# Altium footprint library PcbLib_H2.PcbLib: 33 footprints (part 2 of 3)
Each footprint in its own frame and in the unit in brackets; x right, y up, seen from the top. Pads: shape width x height; smd on the part's side, far side on the other; paste and mask are expansions set on the pad; w line width, h text height; cw(c..) or ccw(c..) is an arc to the next point about the centre after c.
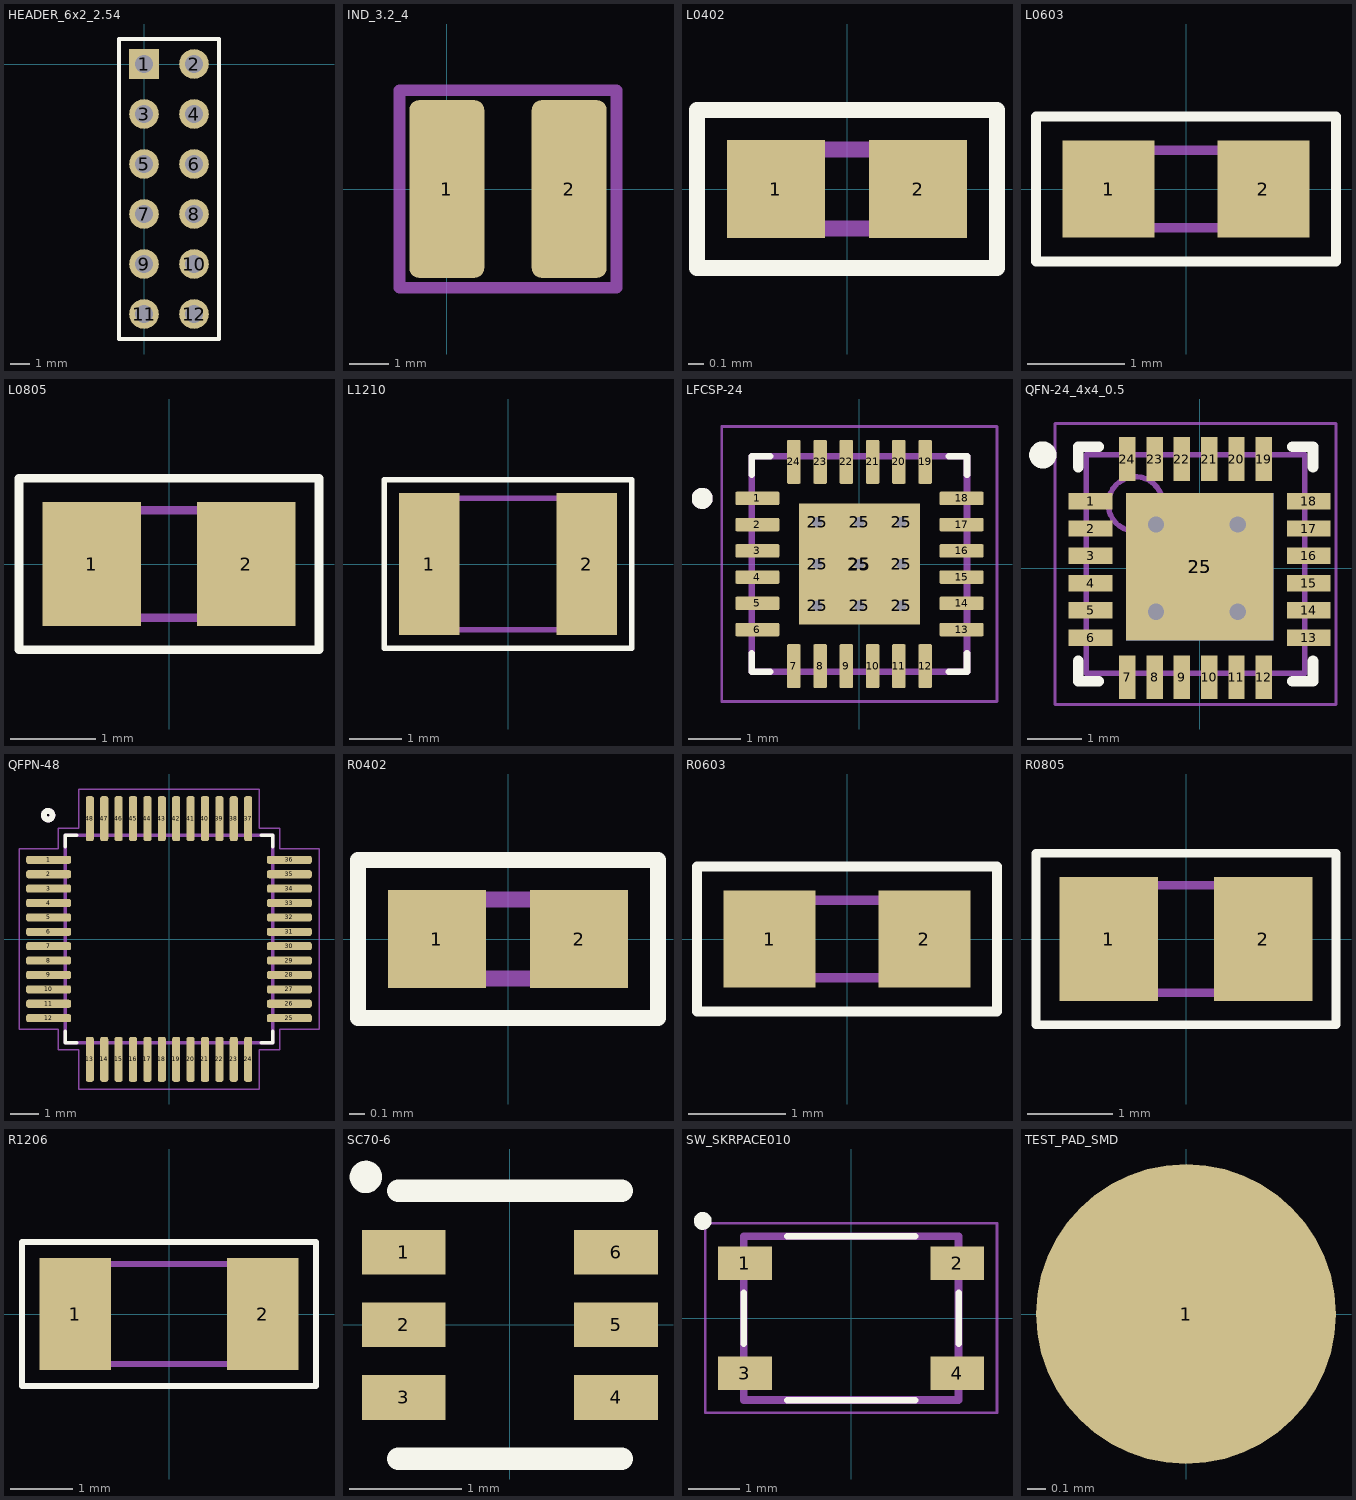
[diagram p1: the footprints below, top view; thin cyan lines are the x and y axes]

## HEADER_6x2_2.54 [mm] "Connector; Header; 2 Position"
pads (12):
  rect 1.5x1.5 hole 0.9: 1(0,0)
  round 1.5 hole 0.9: 2(2.54,0) 3(0,-2.54) 4(2.54,-2.54) 5(0,-5.08) 6(2.54,-5.08) 7(0,-7.62) 8(2.54,-7.62) 9(0,-10.16) 10(2.54,-10.16) 11(0,-12.7) 12(2.54,-12.7)
Top Overlay:
  lines w0.2: -1.27,-13.97 3.81,-13.97 3.81,1.27 -1.27,1.27 -1.27,-13.97
3D body "Pin Header 2x6 TH Pitch 2.54mm.stp": height 9.5, standoff -3.2, extent -1.27,-13.97 3.81,1.27

## IND_3.2_4 [mm]
pads (2):
  rrect25% 1.9x4.5 smd: 1(0,0) 2(3.1,0)
Mechanical 15:
  lines w0.3: -1.2,-2.5 4.3,-2.5 4.3,2.5 -1.2,2.5 -1.2,-2.5
3D body "CD43.stp": height 3.3, standoff 0, extent -0.724,-2.05 3.824,2.05

## L0402 [mm] "Chip Inductor; Body 1 x 0.5 mm (LxW typ)"
height 0.4
pads (2):
  rect 0.62x0.62 smd mask+0.05: 1(-0.45,0) 2(0.45,0)
Top Overlay:
  lines w0.1: -0.95,-0.5 -0.95,0.5 0.95,0.5 0.95,-0.5 -0.95,-0.5
Mechanical 15:
  lines w0.1: -0.5,-0.25 -0.5,0.25 0.5,0.25 0.5,-0.25 -0.5,-0.25
3D body "User Library-Chip Inductor_0402.step": height 0.5, standoff 0, extent -0.5,-0.3 0.5,0.3

## L0603 [mm] "Chip Inductor; Body 1.6 x 0.8 mm (LxW typ)"
height 0.87
pads (2):
  rect 0.95x1 smd mask+0.05: 1(-0.8,0) 2(0.8,0)
Top Overlay:
  lines w0.1: -1.55,-0.75 1.55,-0.75 1.55,0.75 -1.55,0.75 -1.55,-0.75
Mechanical 15:
  lines w0.1: -0.8,-0.4 -0.8,0.4 0.8,0.4 0.8,-0.4 -0.8,-0.4
3D body "User Library-Chip Inductor_0603.step": height 0.8, standoff 0, extent -0.8,-0.475 0.8,0.475

## L0805 [mm] "Chip Inductor; Body 2.0 x 1.2 mm (LxW typ)"
height 1.3
pads (2):
  rect 1.15x1.45 smd mask+0.05: 1(-0.9,0) 2(0.9,0)
Top Overlay:
  lines w0.1: -1.75,-1 1.75,-1 1.75,1 -1.75,1 -1.75,-1
Mechanical 15:
  lines w0.1: -1,-0.625 -1,0.625 1,0.625 1,-0.625 -1,-0.625
3D body "User Library-Chip Inductor_0805.step": height 1.2, standoff 0, extent -1,-0.65 1,0.65

## L1210 [mm] "Chip Inductor, Body 3.2x2.5mm, IPC Medium Density"
height 1.5
pads (2):
  rect 1.15x2.7 smd: 1(-1.5,0) 2(1.5,0)
Top Overlay:
  lines w0.1: -2.35,-1.6 -2.35,1.6 2.35,1.6 2.35,-1.6 -2.35,-1.6
Mechanical 15:
  lines w0.1: -1.6,-1.25 1.6,-1.25 1.6,1.25 -1.6,1.25 -1.6,-1.25
3D body "User Library-LQH32CN.step": height 2, standoff 0, extent -1.601,-1.355 1.601,1.355

## LFCSP-24 [mm]
pads (34):
  rrect25% 0.84x0.26 smd: 1(-1.945,1.25) 2(-1.945,0.75) 3(-1.945,0.25) 4(-1.945,-0.25) 5(-1.945,-0.75) 6(-1.945,-1.25) 13(1.945,-1.25) 14(1.945,-0.75) 15(1.945,-0.25) 16(1.945,0.25) 17(1.945,0.75) 18(1.945,1.25)
  rrect25% 0.26x0.84 smd: 7(-1.25,-1.945) 8(-0.75,-1.945) 9(-0.25,-1.945) 10(0.25,-1.945) 11(0.75,-1.945) 12(1.25,-1.945) 19(1.25,1.945) 20(0.75,1.945) 21(0.25,1.945) 22(-0.25,1.945) 23(-0.75,1.945) 24(-1.25,1.945)
  round 0.5 hole 0.2 mask+0: 25(-0.8,-0.8) 25(-0.8,0) 25(-0.8,0.8) 25(0,0) 25(0,0.8) 25(0,-0.8) 25(0.8,0) 25(0.8,0.8) 25(0.8,-0.8)
  rect 2.3x2.3 smd paste-2: 25(0,0)
Top Overlay:
  circle w0.2: c-2.995,1.25 r0.1
  lines w0.127: -2.05,-1.7 -2.05,-2.05 -1.7,-2.05 ; -2.05,1.7 -2.05,2.05 -1.7,2.05 ; 1.7,-2.05 2.05,-2.05 2.05,-1.7 ; 1.7,2.05 2.05,2.05 2.05,1.7
Mechanical 13:
  circle w0.2: c-2.995,1.25 r0.1
  lines w0.127: -2.05,-2.05 2.05,-2.05 2.05,2.05 -2.05,2.05 -2.05,-2.05
Mechanical 15:
  lines w0.05: -2.62,-2.62 2.62,-2.62 2.62,2.62 -2.62,2.62 -2.62,-2.62
3D body "ADA4938-2ACPZ-R2.STEP": height 0.8, standoff 0, extent -2,-2 2,2

## QFN-24_4x4_0.5 [mm] "QFN, 24-Leads, Body 4,00x4,00mm, Pitch 0,50mm, Thermal Pad 2,45x2,45mm, IPC Medium Density"
height 0.8
pads (26):
  rect 0.8x0.3 smd: 1(-2,1.225) 2(-2,0.725) 3(-2,0.225) 4(-2,-0.275) 5(-2,-0.775) 6(-2,-1.275) 13(2,-1.275) 14(2,-0.775) 15(2,-0.275) 16(2,0.225) 17(2,0.725) 18(2,1.225)
  rect 0.3x0.8 smd: 7(-1.325,-2) 8(-0.825,-2) 9(-0.325,-2) 10(0.175,-2) 11(0.675,-2) 12(1.175,-2) 19(1.175,2) 20(0.675,2) 21(0.175,2) 22(-0.325,2) 23(-0.825,2) 24(-1.325,2)
  rect 2.7x2.7 smd: 25(0,0.025)
  rect 2.7x2.7 smd far side: 25(0,0.025)
via -0.8,0.8 diameter 0.6 hole 0.3
via 0.7,0.8 diameter 0.6 hole 0.3
via -0.8,-0.8 diameter 0.6 hole 0.3
via 0.7,-0.8 diameter 0.6 hole 0.3
Top Overlay:
  circle w0.25: c-2.875,2.075 r0.125
  lines w0.2: -2.225,-1.7 -2.225,-2.075 -1.85,-2.075 ; -2.225,1.85 -2.225,2.225 -1.85,2.225 ; 1.7,-2.075 2.075,-2.075 2.075,-1.7 ; 1.7,2.225 2.075,2.225 2.075,1.85
Mechanical 13:
  circle w0.1: c-1.175,1.175 r0.5
  lines w0.1: -2.075,-1.925 1.925,-1.925 1.925,2.075 -2.075,2.075 -2.075,-1.925
Mechanical 15:
  lines w0.05: -2.65,-2.5 2.5,-2.5 2.5,2.65 -2.65,2.65 -2.65,-2.5
  lines w0.1: -0.575,0.075 0.425,0.075 ; -0.075,-0.425 -0.075,0.575
3D body "QFN-24_4x4_0.5.step": height 0.8, standoff 0, extent -2.141,-2.082 1.959,2.018

## QFPN-48 [mm]
pads (48):
  rrect50% 1.56x0.28 smd: 1(-4.18,2.75) 2(-4.18,2.25) 3(-4.18,1.75) 4(-4.18,1.25) 5(-4.18,0.75) 6(-4.18,0.25) 7(-4.18,-0.25) 8(-4.18,-0.75) 9(-4.18,-1.25) 10(-4.18,-1.75) 11(-4.18,-2.25) 12(-4.18,-2.75) 25(4.18,-2.75) 26(4.18,-2.25) 27(4.18,-1.75) 28(4.18,-1.25) 29(4.18,-0.75) 30(4.18,-0.25) 31(4.18,0.25) 32(4.18,0.75) 33(4.18,1.25) 34(4.18,1.75) 35(4.18,2.25) 36(4.18,2.75)
  rrect50% 0.28x1.56 smd: 13(-2.75,-4.18) 14(-2.25,-4.18) 15(-1.75,-4.18) 16(-1.25,-4.18) 17(-0.75,-4.18) 18(-0.25,-4.18) 19(0.25,-4.18) 20(0.75,-4.18) 21(1.25,-4.18) 22(1.75,-4.18) 23(2.25,-4.18) 24(2.75,-4.18) 37(2.75,4.18) 38(2.25,4.18) 39(1.75,4.18) 40(1.25,4.18) 41(0.75,4.18) 42(0.25,4.18) 43(-0.25,4.18) 44(-0.75,4.18) 45(-1.25,4.18) 46(-1.75,4.18) 47(-2.25,4.18) 48(-2.75,4.18)
Top Overlay:
  circle w0.2: c-4.2,4.3 r0.15
  lines w0.127: -3.6,-3.21 -3.6,-3.6 -3.21,-3.6 ; -3.6,3.21 -3.6,3.6 -3.21,3.6 ; 3.21,-3.6 3.6,-3.6 3.6,-3.21 ; 3.21,3.6 3.6,3.6 3.6,3.21
Mechanical 13:
  circle w0.2: c-4.2,4.3 r0.15
  lines w0.127: -3.6,-3.6 3.6,-3.6 3.6,3.6 -3.6,3.6 -3.6,-3.6
Mechanical 15:
  lines w0.05: -5.21,-3.14 -3.85,-3.14 -3.85,-3.85 -3.14,-3.85 -3.14,-5.21 3.14,-5.21 3.14,-3.85 3.85,-3.85 3.85,-3.14 5.21,-3.14 5.21,3.14 3.85,3.14 3.85,3.85 3.14,3.85 3.14,5.21 -3.14,5.21 -3.14,3.85 -3.85,3.85 -3.85,3.14 -5.21,3.14 -5.21,-3.14
3D body "step_temp.STEP": height 1.6, standoff 0, extent -4.5,-4.5 4.5,4.5

## R0402 [mm] "Chip Resistor; Body 1 x 0.5 mm (LxW typ)"
height 0.4
pads (2):
  rect 0.62x0.62 smd mask+0.05: 1(-0.45,0) 2(0.45,0)
Top Overlay:
  lines w0.1: -0.95,-0.5 -0.95,0.5 0.95,0.5 0.95,-0.5 -0.95,-0.5
Mechanical 15:
  lines w0.1: -0.5,-0.25 -0.5,0.25 0.5,0.25 0.5,-0.25 -0.5,-0.25
3D body "R0402.step": height 0.38, standoff 0, extent -0.5,-0.25 0.5,0.25

## R0603 [mm] "Chip Resistor; Body 1.6 x 0.8 mm (LxW typ)"
height 0.87
pads (2):
  rect 0.95x1 smd mask+0.05: 1(-0.8,0) 2(0.8,0)
Top Overlay:
  lines w0.1: -1.55,-0.75 1.55,-0.75 1.55,0.75 -1.55,0.75 -1.55,-0.75
Mechanical 15:
  lines w0.1: -0.8,-0.4 -0.8,0.4 0.8,0.4 0.8,-0.4 -0.8,-0.4
3D body "R0603.step": height 0.79, standoff 0, extent -1,-0.394 1,0.394

## R0805 [mm] "Chip Resistor; Body 2.0 x 1.2 mm (LxW typ)"
height 1.3
pads (2):
  rect 1.15x1.45 smd mask+0.05: 1(-0.9,0) 2(0.9,0)
Top Overlay:
  lines w0.1: -1.75,-1 1.75,-1 1.75,1 -1.75,1 -1.75,-1
Mechanical 15:
  lines w0.1: -1,-0.625 -1,0.625 1,0.625 1,-0.625 -1,-0.625
3D body "R0805.step": height 0.78, standoff 0, extent -1,-0.625 1,0.625

## R1206 [mm] "Chip Resistor; Body 3.2 x 1.6 mm (LxW typ)"
height 1.5
pads (2):
  rect 1.15x1.8 smd: 1(-1.5,0) 2(1.5,0)
Top Overlay:
  lines w0.1: -2.35,-1.15 2.35,-1.15 2.35,1.15 -2.35,1.15 -2.35,-1.15
Mechanical 15:
  lines w0.1: -1.6,-0.8 -1.6,0.8 1.6,0.8 1.6,-0.8 -1.6,-0.8
3D body "R1206.step": height 1, standoff 0, extent -1.6,-0.8 1.6,0.8

## SC70-6 [mm] "SOT23, 6-Leads, Body 2.9x1.6mm, Pitch 0.95mm, Lead Span 2.7mm, IPC Medium Density"
height 1.45
pads (6):
  rect 0.75x0.4 smd: 1(-0.95,0.65) 2(-0.95,0) 3(-0.95,-0.65) 4(0.95,-0.65) 5(0.95,0) 6(0.95,0.65)
Top Overlay:
  circle w0.15: c-1.29,1.324 r0.07
  lines w0.2: -1,-1.2 1,-1.2 ; -1,1.2 1,1.2
3D body "User Library-SC70-6.step": height 0.92, standoff -0.03, extent -1.05,-1 1.05,1

## SW_SKRPACE010 [mm]
pads (4):
  rect 1.05x0.65 smd: 1(-2.075,1.075) 2(2.075,1.075) 3(-2.075,-1.075) 4(2.075,-1.075)
Top Overlay:
  circle w0.127: c-2.9,1.9 r0.112
  circle w0.127: c-2.9,1.9 r0.05
  lines w0.127: -2.1,-0.5 -2.1,0.5 ; -1.25,-1.6 1.25,-1.6 ; -1.25,1.6 1.25,1.6 ; 2.1,-0.5 2.1,0.5
Mechanical 13:
  lines w0.152: -2.1,-1.6 -2.1,1.6 2.1,1.6 2.1,-1.6 -2.1,-1.6
Mechanical 15:
  lines w0.05: -2.85,-1.85 -2.85,1.85 2.85,1.85 2.85,-1.85 -2.85,-1.85
3D body "SKRPACE010 v4.step": height 2.55, standoff 0, extent -2.446,-1.6 2.446,1.6

## TEST_PAD_SMD [mm]
pads (1):
  round 1.6 smd paste-2: 1(0,0)